# Altium footprint library lagd_pcb.PcbLib: 42 footprints (part 3 of 3)
Each footprint in its own frame and in the unit in brackets; x right, y up, seen from the top. Pads: shape width x height; smd on the part's side, far side on the other; paste and mask are expansions set on the pad; w line width, h text height; cw(c..) or ccw(c..) is an arc to the next point about the centre after c.
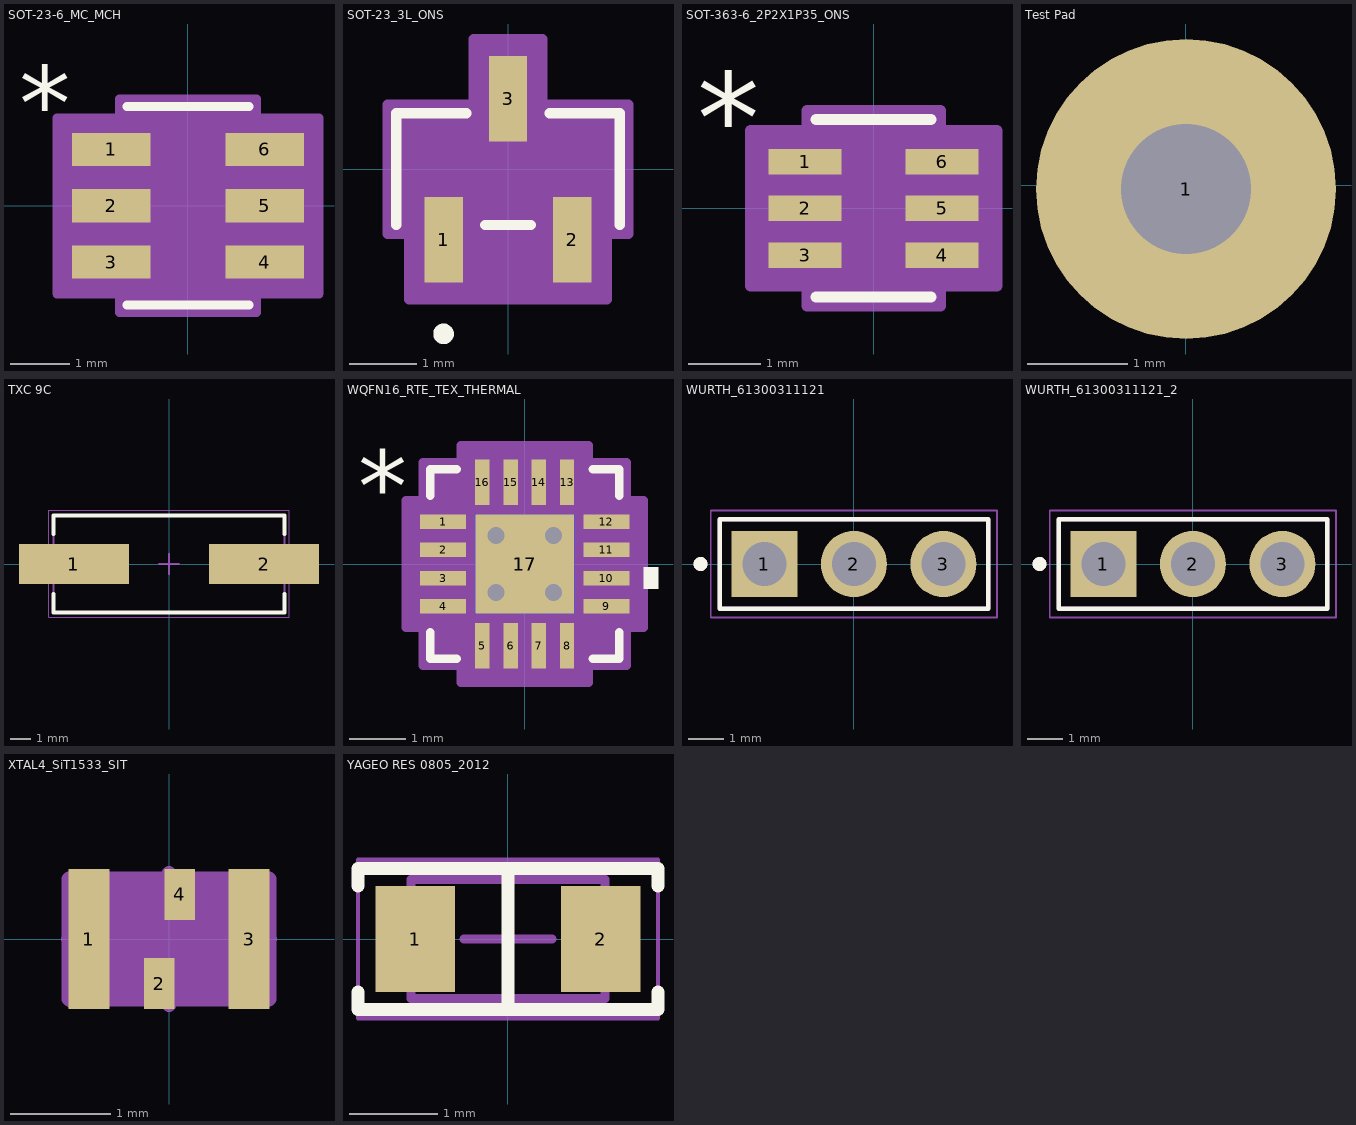
[diagram p2: the footprints below, top view; thin cyan lines are the x and y axes]

## SOT-23-6_MC_MCH [mil]
pads (6):
  rect 52x22 smd paste+0 mask+0: 1(-51,37.4) 2(-51,0) 3(-51,-37.4) 4(51,-37.4) 5(51,0) 6(51,37.4)
Top Overlay:
  lines w6: -40.5,-66 40.5,-66 ; -40.5,66 40.5,66
  text "*" at -112.2,43.31 h50
Top 3D Body:
  lines w0: -12,61 ccw(c0,61) 12,61
  lines w1: -63,-47.4 -63,-27.4 -35.5,-27.4 -35.5,-47.4 -63,-47.4 ; -63,-10 -63,10 -35.5,10 -35.5,-10 -63,-10 ; -63,27.4 -63,47.4 -35.5,47.4 -35.5,27.4 -63,27.4 ; -35.5,-61 35.5,-61 35.5,61 -35.5,61 -35.5,-61 ; 35.5,-47.4 35.5,-27.4 63,-27.4 63,-47.4 35.5,-47.4 ; 35.5,-10 35.5,10 63,10 63,-10 35.5,-10 ; 35.5,27.4 35.5,47.4 63,47.4 63,27.4 35.5,27.4
  text "*" at -33,8 h50
Top Courtyard:
  region: -45.5,-58.4 -87,-58.4 -87,58.4 -45.5,58.4 -45.5,71 45.5,71 45.5,58.4 87,58.4 87,-58.4 45.5,-58.4 45.5,-71 -45.5,-71
  lines w6: -87,-58.4 -87,58.4 -45.5,58.4 -45.5,71 45.5,71 45.5,58.4 87,58.4 87,-58.4 45.5,-58.4 45.5,-71 -45.5,-71 -45.5,-58.4 -87,-58.4
3D body "SOT-23-6_MC_MCH.step": height 57.2, standoff 0, extent -62.99,-60.98 62.99,60.98

## SOT-23_3L_ONS [mil]
pads (3):
  rect 22.36x49.56 smd paste+0 mask+0: 1(-37.5,-41) 2(37.5,-41) 3(0,41)
Top Overlay:
  circle w6: c-37.5,-95.78 r3
  lines w6: -65,-32.5 -65,32.5 -24.28,32.5 ; -13.22,-32.5 13.22,-32.5 ; 24.28,32.5 65,32.5 65,-32.5
Top 3D Body:
  circle w1: c-37.5,-17.5 r3
  lines w1: -60,-27.5 -60,27.5 60,27.5 60,-27.5 -60,-27.5 ; -47.5,-52 -27.5,-52 -27.5,-27.5 -47.5,-27.5 -47.5,-52 ; -10,27.5 -10,52 10,52 10,27.5 -10,27.5 ; 27.5,-52 47.5,-52 47.5,-27.5 27.5,-27.5 27.5,-52
Top Courtyard:
  region: -70,-37.5 -70,37.5 -20,37.5 -20,75.78 20,75.78 20,37.5 70,37.5 70,-37.5 57.5,-37.5 57.5,-75.78 -57.5,-75.78 -57.5,-37.5
  lines w6: -70,-37.5 -57.5,-37.5 -57.5,-75.78 57.5,-75.78 57.5,-37.5 70,-37.5 70,37.5 20,37.5 20,75.78 -20,75.78 -20,37.5 -70,37.5 -70,-37.5
3D body "SOT-23_3L_ONS.step": height 44.09, standoff 0, extent -60,-52.01 60,52.01

## SOT-363-6_2P2X1P35_ONS [mil]
pads (6):
  rect 40x14 smd paste+0 mask+0: 1(-37.5,25.59) 2(-37.5,0) 3(-37.5,-25.59) 4(37.5,-25.59) 5(37.5,0) 6(37.5,25.59)
Top Overlay:
  lines w6: -31.5,-48.5 31.5,-48.5 ; -31.5,48.5 31.5,48.5
  text "*" at -96.69,24.65 h50
Top 3D Body:
  lines w0: -12,43.5 ccw(c0,43.5) 12,43.5
  lines w1: -43.5,-31.59 -26.5,-31.59 -26.5,-19.59 -43.5,-19.59 -43.5,-31.59 ; -43.5,-6 -26.5,-6 -26.5,6 -43.5,6 -43.5,-6 ; -43.5,19.59 -26.5,19.59 -26.5,31.59 -43.5,31.59 -43.5,19.59 ; -26.5,-43.5 -26.5,43.5 26.5,43.5 26.5,-43.5 -26.5,-43.5 ; 26.5,-31.59 43.5,-31.59 43.5,-19.59 26.5,-19.59 26.5,-31.59 ; 26.5,-6 43.5,-6 43.5,6 26.5,6 26.5,-6 ; 26.5,19.59 43.5,19.59 43.5,31.59 26.5,31.59 26.5,19.59
  text "*" at -24,-9.5 h50
Top Courtyard:
  region: -36.5,-42.59 -67.5,-42.59 -67.5,42.59 -36.5,42.59 -36.5,53.5 36.5,53.5 36.5,42.59 67.5,42.59 67.5,-42.59 36.5,-42.59 36.5,-53.5 -36.5,-53.5
  lines w6: -67.5,-42.59 -36.5,-42.59 -36.5,-53.5 36.5,-53.5 36.5,-42.59 67.5,-42.59 67.5,42.59 36.5,42.59 36.5,53.5 -36.5,53.5 -36.5,42.59 -67.5,42.59 -67.5,-42.59
3D body "SOT-363-6_2P2X1P35_ONS.step": height 43.11, standoff 0, extent -43.5,-43.5 43.5,43.5

## Test Pad [mm]
pads (1):
  round 3 hole 1.3: 1(0,-0.039)

## TXC 9C [mm] "Crystal, 2-Leads, Body 4.70x11.40mm, Pitch 8.80mm, IPC Medium Density"
height 4.2
pads (2):
  rect 5.5x2 smd: 1(-4.75,0) 2(4.75,0)
Top Overlay:
  lines w0.2: -5.775,-1.5 -5.775,-2.425 5.775,-2.425 5.775,-1.5 ; -5.775,1.5 -5.775,2.425 5.775,2.425 5.775,1.5
Top 3D Body:
  lines w0.1: -5.775,-2.425 5.775,-2.425 5.775,2.425 -5.775,2.425 -5.775,-2.425
Top Courtyard:
  lines w0.05: -6.025,-2.675 6.025,-2.675 6.025,2.675 -6.025,2.675 -6.025,-2.675
  lines w0.1: -0.5,0 0.5,0 ; 0,-0.5 0,0.5
3D body "HC49US SMT Crystal.STEP": height 4.2, standoff 0, extent -6.35,-2.35 6.35,2.35

## WQFN16_RTE_TEX_THERMAL [mil] "with heat dissipation holes at back"
pads (18):
  rect 32x10 smd paste+0 mask+0: 1(-57,29.53) 2(-57,9.84) 3(-57,-9.85) 4(-57,-29.54) 9(57,-29.54) 10(57,-9.85) 11(57,9.84) 12(57,29.53)
  rect 10x32 smd paste+0 mask+0: 5(-29.54,-57) 6(-9.85,-57) 7(9.84,-57) 8(29.53,-57) 13(29.53,57) 14(9.84,57) 15(-9.85,57) 16(-29.54,57)
  rect 69.02x69.02 smd far side: 17(0,0)
  rect 69x69 smd paste+0 mask+0: 17(0,0)
via -20,20 diameter 11.81 hole 11.81
via 20,-20 diameter 11.81 hole 11.81
via 20,20 diameter 11.81 hole 11.81
via -20,-20 diameter 11.81 hole 11.81
Top Overlay:
  region: 83,-2.35 93,-2.35 93,-17.34 83,-17.34
  lines w6: -66,-47.64 -66,-66 -47.64,-66 ; -66,47.63 -66,66 -47.64,66 ; 47.63,-66 66,-66 66,-47.64 ; 47.63,66 66,66 66,47.63
  text "*" at -116.35,29.73 h50
Top 3D Body:
  lines w1: -61,11 -11,61 ; -61,-61 -61,61 61,61 61,-61 -61,-61 ; -61,-35.54 -61,-23.54 -61,-35.54 ; -61,-15.85 -61,-3.85 -61,-15.85 ; -61,3.84 -61,15.84 -61,3.84 ; -61,23.53 -61,35.53 -61,23.53 ; -35.54,-61 -23.54,-61 -35.54,-61 ; -35.54,61 -23.54,61 -35.54,61 ; -15.85,-61 -3.85,-61 -15.85,-61 ; -15.85,61 -3.85,61 -15.85,61 ; 3.84,-61 15.84,-61 3.84,-61 ; 3.84,61 15.84,61 3.84,61 ; 23.53,-61 35.53,-61 23.53,-61 ; 23.53,61 35.53,61 23.53,61 ; 61,-35.54 61,-23.54 61,-35.54 ; 61,-15.85 61,-3.85 61,-15.85 ; 61,3.84 61,15.84 61,3.84 ; 61,23.53 61,35.53 61,23.53
  text "*" at -53.5,14.38 h50
Top Courtyard:
  region: -44.53,-71 -71,-71 -71,-44.53 -83,-44.53 -83,44.53 -71,44.53 -71,71 -44.53,71 -44.53,83 44.53,83 44.53,71 71,71 71,44.53 83,44.53 83,-44.53 71,-44.53 71,-71 44.53,-71 44.53,-83 -44.53,-83
  lines w6: -83,-44.54 -71,-44.54 -71,-71 -44.54,-71 -44.54,-83 44.53,-83 44.53,-71 71,-71 71,-44.54 83,-44.54 83,44.53 71,44.53 71,71 44.53,71 44.53,83 -44.54,83 -44.54,71 -71,71 -71,44.53 -83,44.53 -83,-44.54
3D body "WQFN16_RTE_TEX.step": height 32.09, standoff 0, extent -60.98,-60.98 60.98,60.98

## WURTH_61300311121 [mm]
height 8.74
pads (3):
  rect 1.875x1.875 / inner round 1.875 / far side rect 1.875x1.875 hole 1.25: 1(-2.54,0)
  round 1.875 hole 1.25: 2(0,0) 3(2.54,0)
Top Overlay:
  circle w0.2: c-4.35,0 r0.1
  lines w0.127: -3.81,-1.27 3.81,-1.27 3.81,1.27 -3.81,1.27 -3.81,-1.27
Top 3D Body:
  circle w0.2: c-4.35,0 r0.1
  lines w0.127: -3.81,-1.27 3.81,-1.27 3.81,1.27 -3.81,1.27 -3.81,-1.27
Top Courtyard:
  lines w0.05: -4.06,-1.52 4.06,-1.52 4.06,1.52 -4.06,1.52 -4.06,-1.52
3D body "step_temp.STEP": height 7.27, standoff -4.27, extent -3.81,-1.27 3.81,1.27

## WURTH_61300311121_2 [mm]
pads (3):
  rect 1.875x1.875 / inner round 1.875 / far side rect 1.875x1.875 hole 1.25: 1(-2.54,0)
  round 1.875 hole 1.25: 2(0,0) 3(2.54,0)
Top Overlay:
  circle w0.2: c-4.35,0 r0.1
  lines w0.127: -3.81,-1.27 3.81,-1.27 3.81,1.27 -3.81,1.27 -3.81,-1.27
Top 3D Body:
  circle w0.2: c-4.35,0 r0.1
  lines w0.127: -3.81,-1.27 3.81,-1.27 3.81,1.27 -3.81,1.27 -3.81,-1.27
Top Courtyard:
  lines w0.05: -4.06,-1.52 4.06,-1.52 4.06,1.52 -4.06,1.52 -4.06,-1.52
3D body "step_temp.STEP": height 7.27, standoff -4.27, extent -3.81,-1.27 3.81,1.27

## XTAL4_SiT1533_SIT [mil]
pads (4):
  rect 16x55 smd paste+0 mask+0: 1(-31.5,0) 3(31.5,0)
  rect 12x20 smd paste+0 mask+0: 2(-3.9,-17.56) 4(4.17,17.56)
Top 3D Body:
  lines w1: -39.37,-26.38 10.63,23.62 ; -39.37,-23.62 39.37,-23.62 39.37,23.62 -39.37,23.62 -39.37,-23.62
Top Courtyard:
  region: 0,-23.62 -39.37,-23.62 -39.37,0 -39.5,0 -39.37,0 -39.37,23.62 0,23.62 0,25.72 0,23.62 39.37,23.62 39.37,0 39.5,0 39.37,0 39.37,-23.62 0,-23.62 0,-25.72
  lines w6: -39.37,0 -39.37,-23.62 0,-23.62 ; -39.37,0 -39.5,0 -39.37,0 ; -39.37,0 -39.37,23.62 0,23.62 ; 0,-23.62 39.37,-23.62 39.37,0 ; 0,-23.62 0,-25.72 0,-23.62 ; 0,23.62 0,25.72 0,23.62 ; 0,23.62 39.37,23.62 39.37,0 ; 39.37,0 39.5,0 39.37,0

## YAGEO RES 0805_2012 [mm] "Chip Resistor, 2-Leads, Body 2.00x1.25mm"
height 0.7
pads (2):
  rect 0.9x1.2 smd: 1(-1.05,0) 2(1.05,0)
Top Overlay:
  lines w0.15: -1.7,-0.6 -1.7,-0.8 1.7,-0.8 1.7,-0.6 ; -1.7,0.6 -1.7,0.8 1.7,0.8 1.7,0.6 ; 0,-0.8 0,0.8
Top 3D Body:
  lines w0.1: -1.1,-0.675 -1.1,0.675 1.1,0.675 1.1,-0.675 -1.1,-0.675
Top Courtyard:
  lines w0.05: -1.7,-0.9 -1.7,0.9 1.7,0.9 1.7,-0.9 -1.7,-0.9
  lines w0.1: -0.5,0 0.5,0 ; 0,-0.5 0,0.5
3D body "0805 resistor.STEP": height 0.6, standoff 0, extent -1,-0.625 1,0.625